# EAGLE library part POWER_CONN-8P (library F030NG)
Falcon030 power connector MOLEX 09-65-2088
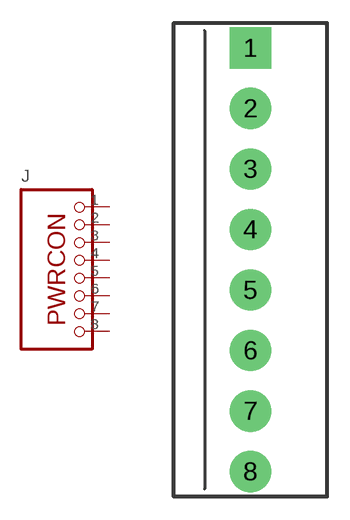
[diagram p0: symbol with the pads of MOLEX_09-65-2088; footprint MOLEX_09-65-2088]

Designator prefix J

## POWER_CONN-8P  [MOLEX_09-65-2088]
1  P$1  pas
2  P$2  pas
3  P$3  pas
4  P$4  pas
5  P$5  pas
6  P$6  pas
7  P$7  pas
8  P$8  pas

## Footprint MOLEX_09-65-2088 (pad centres in mm)
drill 1.8 pad 2.184 square: 1 0,13.86
drill 1.8 pad 2.184: 2 0,9.9; 3 0,5.94; 4 0,1.98; 5 0,-1.98; 6 0,-5.94; 7 0,-9.9; 8 0,-13.86